# Altium schematic symbol library N096-2864KSWEG01-H301_N096-2864KSWEG01-H30.SCHLIB: 1 symbol
Pins are listed as number, name and electrical type; pins without a type are passive.

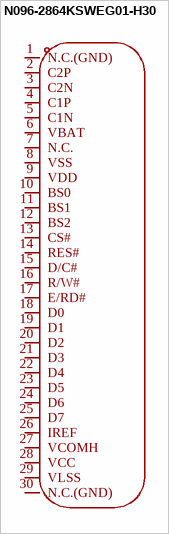
[diagram p0: symbol N096-2864KSWEG01-H30]

## N096-2864KSWEG01-H30
designator OLED??  (value not drawn)
Manufacturer: Newvision(新智景); Add into BOM: yes; Main Control Chip: SSD1306; Symbol: N096-2864KSWEG01-H30; Device: N096-2864KSWEG01-H30; LCSC Part Name: 0.96寸 白色 128x64像素分辨率 单色 30PIN; Supplier Part: C2890596; Manufacturer Part: N096-2864KSWEG01-H30; Supplier Footprint: -; JLCPCB Part Class: Extended Part; Supplier: LCSC; Convert to PCB: yes; Size: 0.96
footprint OLED_0.96-30P-P0.70-12864
3D model OLED_L26.7-W15.5-H1.4-0.96-30P-P0.70-12864
pins: 1 N.C.(GND), 2 C2P, 3 C2N, 4 C1P, 5 C1N, 6 VBAT, 7 N.C., 8 VSS, 9 VDD, 10 BS0, 11 BS1, 12 BS2, 13 CS#, 14 RES#, 15 D/C#, 16 R/W#, 17 E/RD#, 18 D0, 19 D1, 20 D2, 21 D3, 22 D4, 23 D5, 24 D6, 25 D7, 26 IREF, 27 VCOMH, 28 VCC, 29 VLSS, 30 N.C.(GND)